# EAGLE library part EIMS_PREAMP (library di_pcb)
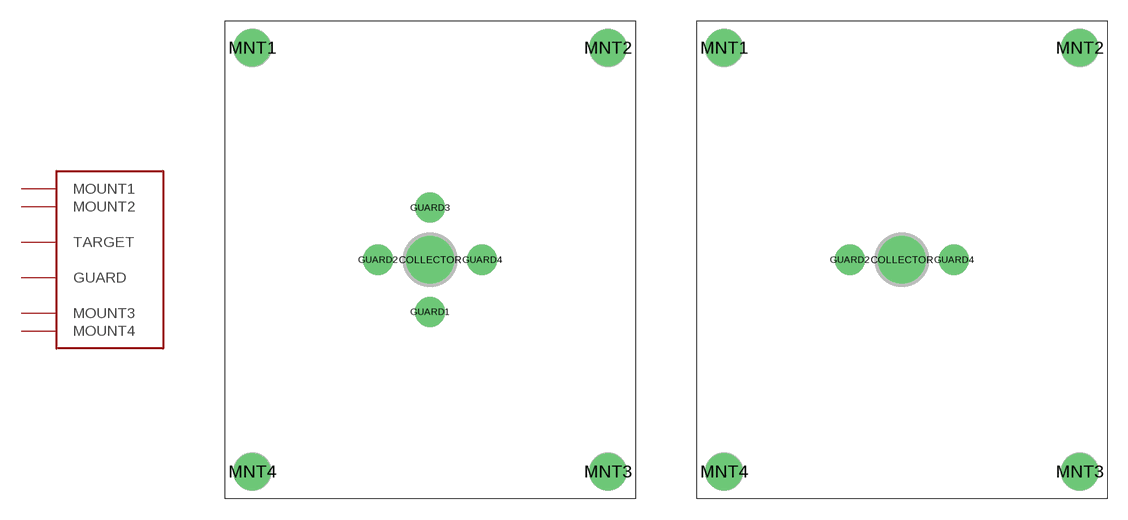
[diagram p3: symbol with the pads of EIMS_REV3_SHEILD_4HOLES; footprints EIMS_REV3_SHEILD_4HOLES, EIMS_REV3_SHIELD_2HOLES]

Designator prefix BRD

## EIMS_PREAMP_4HOLES  [EIMS_REV3_SHEILD_4HOLES]
COLLECTOR  TARGET
GUARD1  GUARD
GUARD2  GUARD
GUARD3  GUARD
GUARD4  GUARD
MNT1  MOUNT1
MNT2  MOUNT2
MNT3  MOUNT3
MNT4  MOUNT4

## EIMS_PREAMP_2HOLES  [EIMS_REV3_SHIELD_2HOLES]
COLLECTOR  TARGET
GUARD2  GUARD
GUARD4  GUARD
MNT1  MOUNT1
MNT2  MOUNT2
MNT3  MOUNT3
MNT4  MOUNT4

## EIMS_PREAMP  [EIMS_REV3_SHIELD_2HOLES_ISO]
Pads as for EIMS_REV3_SHEILD_4HOLES

## Footprint EIMS_REV3_SHEILD_4HOLES (pad centres in mm)
drill 2.2 pad 3.5: COLLECTOR 15,17.5
drill 1.3 pad 2.2: GUARD1 15,13.69; GUARD2 11.19,17.5; GUARD3 15,21.31; GUARD4 18.81,17.5
drill 1.5 pad 2.7: MNT1 2,33; MNT2 28,33; MNT3 28,2; MNT4 2,2

## Footprint EIMS_REV3_SHIELD_2HOLES (pad centres in mm)
drill 2.2 pad 3.5: COLLECTOR 15,17.5
drill 1.3 pad 2.2: GUARD2 11.19,17.5; GUARD4 18.81,17.5
drill 1.5 pad 2.7: MNT1 2,33; MNT2 28,33; MNT3 28,2; MNT4 2,2

## Footprint EIMS_REV3_SHIELD_2HOLES_ISO (pad centres in mm)
drill 2.2 pad 3.5: COLLECTOR 15,40.5
drill 1.5 pad 2.3: GUARD1 11.2,40.5; GUARD2 18.8,40.5
smd 1.27 x 0.635 bottom: GUARD3 15,36.7; GUARD4 15,44.3
drill 1.5 pad 2.7: MNT1 2,56; MNT2 28,56; MNT3 28,25; MNT4 2,25